# Altium footprint library SparkFun-Connectors.PCBLIB: 305 footprints (part 10 of 20)
Each footprint in its own frame and in the unit in brackets; x right, y up, seen from the top. Pads: shape width x height; smd on the part's side, far side on the other; paste and mask are expansions set on the pad; w line width, h text height; cw(c..) or ccw(c..) is an arc to the next point about the centre after c.
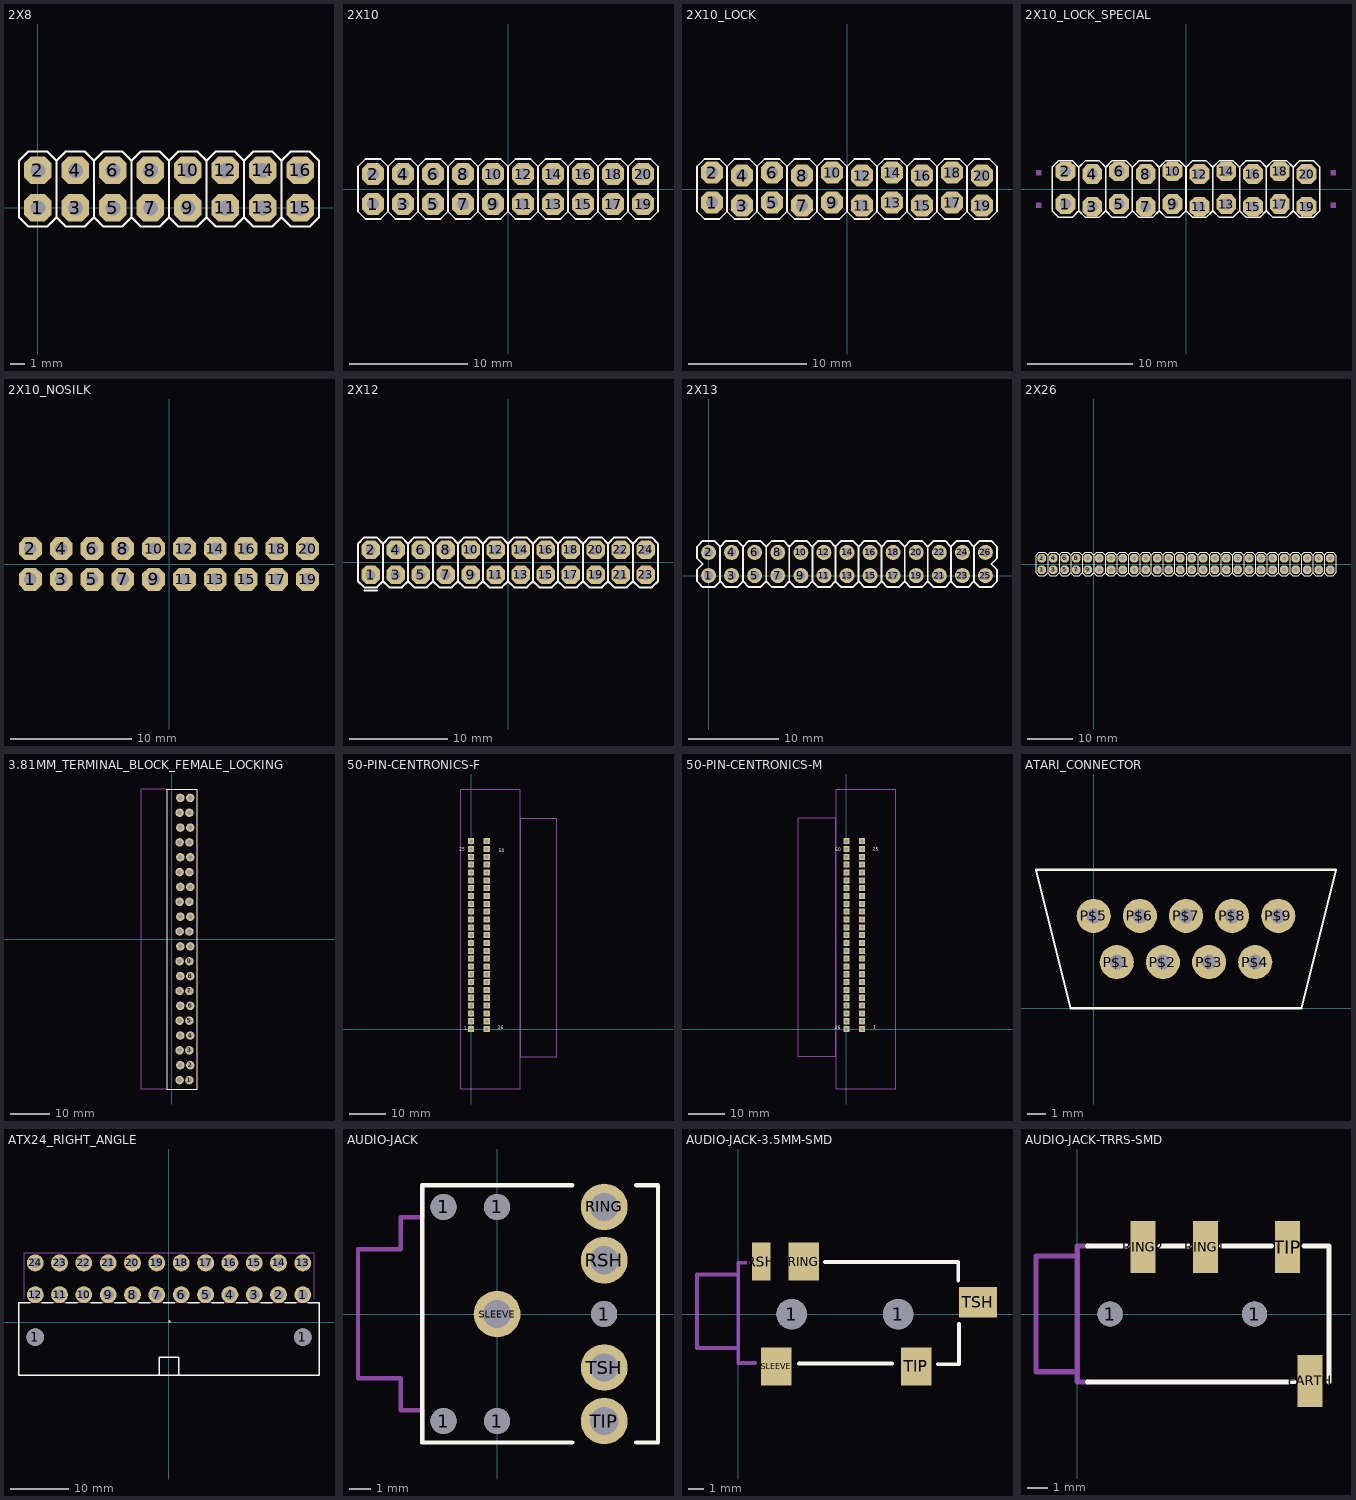
[diagram p9: the footprints below, top view; thin cyan lines are the x and y axes]

## 2X8 [mil]
pads (16):
  oct 74x74 hole 40: 1(0,0) 2(0,100) 3(100,0) 4(100,100) 5(200,0) 6(200,100) 7(300,0) 8(300,100) 9(400,0) 10(400,100) 11(500,0) 12(500,100) 13(600,0) 14(600,100) 15(700,0) 16(700,100)
Top Overlay:
  lines w6: 50,-25 25,-50 -25,-50 -50,-25 -50,125 -25,150 25,150 50,125 ; 50,-25 75,-50 125,-50 150,-25 ; 50,-25 50,125 ; 50,125 75,150 125,150 150,125 ; 150,-25 175,-50 225,-50 250,-25 ; 150,-25 150,125 ; 150,125 175,150 225,150 250,125 ; 250,-25 275,-50 325,-50 350,-25 ; 250,-25 250,125 ; 250,125 275,150 325,150 350,125 ; 350,-25 375,-50 425,-50 450,-25 ; 350,-25 350,125 ; 350,125 375,150 425,150 450,125 ; 450,-25 475,-50 525,-50 550,-25 ; 450,-25 450,125 ; 450,125 475,150 525,150 550,125 ; 550,-25 575,-50 625,-50 650,-25 ; 550,-25 550,125 ; 550,125 575,150 625,150 650,125 ; 650,-25 675,-50 725,-50 750,-25 750,125 725,150 675,150 650,125 ; 650,-25 650,125
Mechanical 16:
  rectangle: -10,-10 10,10
  rectangle: -10,90 10,110
  rectangle: 90,90 110,110
  rectangle: 90,-10 110,10
  rectangle: 190,90 210,110
  rectangle: 190,-10 210,10
  rectangle: 290,90 310,110
  rectangle: 390,90 410,110
  rectangle: 490,90 510,110
  rectangle: 290,-10 310,10
  rectangle: 390,-10 410,10
  rectangle: 490,-10 510,10
  rectangle: 590,90 610,110
  rectangle: 590,-10 610,10
  rectangle: 690,90 710,110
  rectangle: 690,-10 710,10

## 2X10 [mil]
pads (20):
  oct 74x74 hole 40: 1(-450,-50) 2(-450,50) 3(-350,-50) 4(-350,50) 5(-250,-50) 6(-250,50) 7(-150,-50) 8(-150,50) 9(-50,-50) 10(-50,50) 11(50,-50) 12(50,50) 13(150,-50) 14(150,50) 15(250,-50) 16(250,50) 17(350,-50) 18(350,50) 19(450,-50) 20(450,50)
Top Overlay:
  lines w6: -400,-75 -425,-100 -475,-100 -500,-75 -500,75 -475,100 -425,100 -400,75 ; -400,-75 -375,-100 -325,-100 -300,-75 ; -400,-75 -400,75 ; -400,75 -375,100 -325,100 -300,75 ; -300,-75 -275,-100 -225,-100 -200,-75 ; -300,-75 -300,75 ; -300,75 -275,100 -225,100 -200,75 ; -200,-75 -175,-100 -125,-100 -100,-75 ; -200,-75 -200,75 ; -200,75 -175,100 -125,100 -100,75 ; -100,-75 -75,-100 -25,-100 0,-75 ; -100,-75 -100,75 ; -100,75 -75,100 -25,100 0,75 ; 0,-75 25,-100 75,-100 100,-75 ; 0,-75 0,75 ; 0,75 25,100 75,100 100,75 ; 100,-75 125,-100 175,-100 200,-75 ; 100,-75 100,75 ; 100,75 125,100 175,100 200,75 ; 200,-75 225,-100 275,-100 300,-75 ; 200,-75 200,75 ; 200,75 225,100 275,100 300,75 ; 300,-75 325,-100 375,-100 400,-75 ; 300,-75 300,75 ; 300,75 325,100 375,100 400,75 ; 400,-75 400,75 ; 400,-75 425,-100 475,-100 500,-75 500,75 475,100 425,100 400,75
Mechanical 16:
  rectangle: -460,-60 -440,-40
  rectangle: -460,40 -440,60
  rectangle: -360,40 -340,60
  rectangle: -360,-60 -340,-40
  rectangle: -260,40 -240,60
  rectangle: -260,-60 -240,-40
  rectangle: -160,40 -140,60
  rectangle: -60,40 -40,60
  rectangle: 40,40 60,60
  rectangle: -160,-60 -140,-40
  rectangle: -60,-60 -40,-40
  rectangle: 40,-60 60,-40
  rectangle: 140,40 160,60
  rectangle: 140,-60 160,-40
  rectangle: 240,40 260,60
  rectangle: 240,-60 260,-40
  rectangle: 340,40 360,60
  rectangle: 340,-60 360,-40
  rectangle: 440,40 460,60
  rectangle: 440,-60 460,-40

## 2X10_LOCK [mil]
pads (20):
  oct 74x74 hole 40: 1(-450,-45) 2(-450,55) 3(-350,-55) 4(-350,45) 5(-250,-45) 6(-250,55) 7(-150,-55) 8(-150,45) 9(-50,-45) 10(-50,55) 11(50,-55) 12(50,45) 13(150,-45) 14(150,55) 15(250,-55) 16(250,45) 17(350,-45) 18(350,55) 19(450,-55) 20(450,45)
Top Overlay:
  lines w6: -400,-75 -425,-100 -475,-100 -500,-75 -500,75 -475,100 -425,100 -400,75 ; -400,-75 -375,-100 -325,-100 -300,-75 ; -400,-75 -400,75 ; -400,75 -375,100 -325,100 -300,75 ; -300,-75 -275,-100 -225,-100 -200,-75 ; -300,-75 -300,75 ; -300,75 -275,100 -225,100 -200,75 ; -200,-75 -175,-100 -125,-100 -100,-75 ; -200,-75 -200,75 ; -200,75 -175,100 -125,100 -100,75 ; -100,-75 -75,-100 -25,-100 0,-75 ; -100,-75 -100,75 ; -100,75 -75,100 -25,100 0,75 ; 0,-75 25,-100 75,-100 100,-75 ; 0,-75 0,75 ; 0,75 25,100 75,100 100,75 ; 100,-75 125,-100 175,-100 200,-75 ; 100,-75 100,75 ; 100,75 125,100 175,100 200,75 ; 200,-75 225,-100 275,-100 300,-75 ; 200,-75 200,75 ; 200,75 225,100 275,100 300,75 ; 300,-75 325,-100 375,-100 400,-75 ; 300,-75 300,75 ; 300,75 325,100 375,100 400,75 ; 400,-75 400,75 ; 400,-75 425,-100 475,-100 500,-75 500,75 475,100 425,100 400,75
Mechanical 16:
  rectangle: -460,-60 -440,-40
  rectangle: -460,40 -440,60
  rectangle: -360,40 -340,60
  rectangle: -360,-60 -340,-40
  rectangle: -260,40 -240,60
  rectangle: -260,-60 -240,-40
  rectangle: -160,40 -140,60
  rectangle: -60,40 -40,60
  rectangle: 40,40 60,60
  rectangle: -160,-60 -140,-40
  rectangle: -60,-60 -40,-40
  rectangle: 40,-60 60,-40
  rectangle: 140,40 160,60
  rectangle: 140,-60 160,-40
  rectangle: 240,40 260,60
  rectangle: 240,-60 260,-40
  rectangle: 340,40 360,60
  rectangle: 340,-60 360,-40
  rectangle: 440,40 460,60
  rectangle: 440,-60 460,-40

## 2X10_LOCK_SPECIAL [mil]
pads (20):
  oct 74x74 hole 40: 1(-450,-56) 2(-450,66) 3(-350,-66) 4(-350,56) 5(-250,-56) 6(-250,66) 7(-150,-66) 8(-150,56) 9(-50,-56) 10(-50,66) 11(50,-66) 12(50,56) 13(150,-56) 14(150,66) 15(250,-66) 16(250,56) 17(350,-56) 18(350,66) 19(450,-66) 20(450,56)
Top Overlay:
  lines w6: -400,-81 -425,-106 -475,-106 -500,-81 -500,81 -475,106 -425,106 -400,81 ; -400,-81 -375,-106 -325,-106 -300,-81 ; -400,-81 -400,81 ; -400,81 -375,106 -325,106 -300,81 ; -300,-81 -275,-106 -225,-106 -200,-81 ; -300,-81 -300,81 ; -300,81 -275,106 -225,106 -200,81 ; -200,-81 -175,-106 -125,-106 -100,-81 ; -200,-81 -200,81 ; -200,81 -175,106 -125,106 -100,81 ; -100,-81 -75,-106 -25,-106 0,-81 ; -100,-81 -100,81 ; -100,81 -75,106 -25,106 0,81 ; 0,-81 25,-106 75,-106 100,-81 ; 0,-81 0,81 ; 0,81 25,106 75,106 100,81 ; 100,-81 125,-106 175,-106 200,-81 ; 100,-81 100,81 ; 100,81 125,106 175,106 200,81 ; 200,-81 225,-106 275,-106 300,-81 ; 200,-81 200,81 ; 200,81 225,106 275,106 300,81 ; 300,-81 325,-106 375,-106 400,-81 ; 300,-81 300,81 ; 300,81 325,106 375,106 400,81 ; 400,-81 400,81 ; 400,-81 425,-106 475,-106 500,-81 500,81 475,106 425,106 400,81
Mechanical 16:
  rectangle: -460,-71 -440,-51
  rectangle: -460,51 -440,71
  rectangle: -360,51 -340,71
  rectangle: -360,-71 -340,-51
  rectangle: -260,51 -240,71
  rectangle: -260,-71 -240,-51
  rectangle: -160,51 -140,71
  rectangle: -60,51 -40,71
  rectangle: 40,51 60,71
  rectangle: -160,-71 -140,-51
  rectangle: -60,-71 -40,-51
  rectangle: 40,-71 60,-51
  rectangle: 140,51 160,71
  rectangle: 140,-71 160,-51
  rectangle: 240,51 260,71
  rectangle: 240,-71 260,-51
  rectangle: 340,51 360,71
  rectangle: 340,-71 360,-51
  rectangle: 440,51 460,71
  rectangle: 440,-71 460,-51
  rectangle: -560,51 -540,71
  rectangle: -560,-71 -540,-51
  rectangle: 540,51 560,71
  rectangle: 540,-71 560,-51

## 2X10_NOSILK [mil]
pads (20):
  oct 74x74 hole 40: 1(-450,-50) 2(-450,50) 3(-350,-50) 4(-350,50) 5(-250,-50) 6(-250,50) 7(-150,-50) 8(-150,50) 9(-50,-50) 10(-50,50) 11(50,-50) 12(50,50) 13(150,-50) 14(150,50) 15(250,-50) 16(250,50) 17(350,-50) 18(350,50) 19(450,-50) 20(450,50)
Mechanical 16:
  rectangle: -460,-60 -440,-40
  rectangle: -460,40 -440,60
  rectangle: -360,40 -340,60
  rectangle: -360,-60 -340,-40
  rectangle: -260,40 -240,60
  rectangle: -260,-60 -240,-40
  rectangle: -160,40 -140,60
  rectangle: -60,40 -40,60
  rectangle: 40,40 60,60
  rectangle: -160,-60 -140,-40
  rectangle: -60,-60 -40,-40
  rectangle: 40,-60 60,-40
  rectangle: 140,40 160,60
  rectangle: 140,-60 160,-40
  rectangle: 240,40 260,60
  rectangle: 240,-60 260,-40
  rectangle: 340,40 360,60
  rectangle: 340,-60 360,-40
  rectangle: 440,40 460,60
  rectangle: 440,-60 460,-40

## 2X12 [mil]
pads (24):
  oct 74x74 hole 40: 1(-550,-50) 2(-550,50) 3(-450,-50) 4(-450,50) 5(-350,-50) 6(-350,50) 7(-250,-50) 8(-250,50) 9(-150,-50) 10(-150,50) 11(-50,-50) 12(-50,50) 13(50,-50) 14(50,50) 15(150,-50) 16(150,50) 17(250,-50) 18(250,50) 19(350,-50) 20(350,50) 21(450,-50) 22(450,50) 23(550,-50) 24(550,50)
Top Overlay:
  lines w8: -575,-113.19 -525,-113.19 ; -500,-75 -525,-100 -575,-100 -600,-75 -600,75 -575,100 -525,100 -500,75 ; -500,-75 -475,-100 -425,-100 -400,-75 ; -500,-75 -500,75 ; -500,75 -475,100 -425,100 -400,75 ; -400,-75 -375,-100 -325,-100 -300,-75 ; -400,-75 -400,75 ; -400,75 -375,100 -325,100 -300,75 ; -300,-75 -300,75 ; -300,-75 -275,-100 -225,-100 -200,-75 ; -300,-75 -300,75 ; -300,75 -275,100 -225,100 -200,75 ; -200,-75 -175,-100 -125,-100 -100,-75 ; -200,-75 -200,75 ; -200,75 -175,100 -125,100 -100,75 ; -100,-75 -75,-100 -25,-100 0,-75 ; -100,-75 -100,75 ; -100,75 -75,100 -25,100 0,75 ; 0,-75 0,75 ; 0,-75 25,-100 75,-100 100,-75 ; 0,-75 0,75 ; 0,75 25,100 75,100 100,75 ; 100,-75 125,-100 175,-100 200,-75 ; 100,-75 100,75 ; 100,75 125,100 175,100 200,75 ; 200,-75 225,-100 275,-100 300,-75 ; 200,-75 200,75 ; 200,75 225,100 275,100 300,75 ; 300,-75 300,75 ; 300,-75 325,-100 375,-100 400,-75 ; 300,-75 300,75 ; 300,75 325,100 375,100 400,75 ; 400,-75 425,-100 475,-100 500,-75 ; 400,-75 400,75 ; 400,75 425,100 475,100 500,75 ; 500,-75 525,-100 575,-100 600,-75 600,75 575,100 525,100 500,75 ; 500,-75 500,75
Mechanical 16:
  rectangle: -560,-60 -540,-40
  rectangle: -560,40 -540,60
  rectangle: -460,40 -440,60
  rectangle: -460,-60 -440,-40
  rectangle: -360,40 -340,60
  rectangle: -360,-60 -340,-40
  rectangle: -260,-60 -240,-40
  rectangle: -260,40 -240,60
  rectangle: -160,40 -140,60
  rectangle: -160,-60 -140,-40
  rectangle: -60,40 -40,60
  rectangle: -60,-60 -40,-40
  rectangle: 40,-60 60,-40
  rectangle: 40,40 60,60
  rectangle: 140,40 160,60
  rectangle: 140,-60 160,-40
  rectangle: 240,40 260,60
  rectangle: 240,-60 260,-40
  rectangle: 340,-60 360,-40
  rectangle: 340,40 360,60
  rectangle: 440,40 460,60
  rectangle: 440,-60 460,-40
  rectangle: 540,40 560,60
  rectangle: 540,-60 560,-40

## 2X13 [mil]
pads (26):
  round 65 hole 40: 1(0,0) 2(0,100) 3(100,0) 4(100,100) 5(200,0) 6(200,100) 7(300,0) 8(300,100) 9(400,0) 10(400,100) 11(500,0) 12(500,100) 13(600,0) 14(600,100) 15(700,0) 16(700,100) 17(800,0) 18(800,100) 19(900,0) 20(900,100) 21(1000,0) 22(1000,100) 23(1100,0) 24(1100,100) 25(1200,0) 26(1200,100)
Top Overlay:
  lines w8: 50,-25 25,-50 -25,-50 -50,-25 -50,25 -25,50 -50,75 -50,125 -25,150 25,150 50,125 ; 50,-25 75,-50 125,-50 150,-25 ; 50,-25 50,125 ; 50,125 75,150 125,150 150,125 ; 150,-25 175,-50 225,-50 250,-25 ; 150,-25 150,125 ; 150,125 175,150 225,150 250,125 ; 250,-25 275,-50 325,-50 350,-25 ; 250,-25 250,125 ; 250,125 275,150 325,150 350,125 ; 350,-25 375,-50 425,-50 450,-25 ; 350,-25 350,125 ; 350,125 375,150 425,150 450,125 ; 450,-25 475,-50 525,-50 550,-25 ; 450,-25 450,125 ; 450,125 475,150 525,150 550,125 ; 550,-25 575,-50 625,-50 650,-25 ; 550,-25 550,125 ; 550,125 575,150 625,150 650,125 ; 650,-25 675,-50 725,-50 750,-25 ; 650,-25 650,125 ; 650,125 675,150 725,150 750,125 ; 750,-25 775,-50 825,-50 850,-25 ; 750,-25 750,125 ; 750,125 775,150 825,150 850,125 ; 850,-25 875,-50 925,-50 950,-25 ; 850,-25 850,125 ; 850,125 875,150 925,150 950,125 ; 950,-25 975,-50 1025,-50 1050,-25 ; 950,-25 950,125 ; 950,125 975,150 1025,150 1050,125 ; 1050,-25 1075,-50 1125,-50 1150,-25 ; 1050,-25 1050,125 ; 1050,125 1075,150 1125,150 1150,125 ; 1150,-25 1175,-50 1225,-50 1250,-25 1250,25 1225,50 1250,75 1250,125 1225,150 1175,150 1150,125 ; 1150,-25 1150,125
Mechanical 16:
  rectangle: 590,-10 610,10
  rectangle: 490,-10 510,10
  rectangle: 390,-10 410,10
  rectangle: 290,-10 310,10
  rectangle: 190,-10 210,10
  rectangle: 90,-10 110,10
  rectangle: -10,-10 10,10
  rectangle: 1190,-10 1210,10
  rectangle: 1090,-10 1110,10
  rectangle: 990,-10 1010,10
  rectangle: 890,-10 910,10
  rectangle: 790,-10 810,10
  rectangle: 690,-10 710,10
  region: 610,110 590,110 590,90 610,90
  region: 710,110 690,110 690,90 710,90
  region: 810,110 790,110 790,90 810,90
  region: 910,110 890,110 890,90 910,90
  region: 1010,110 990,110 990,90 1010,90
  region: 1110,110 1090,110 1090,90 1110,90
  region: 1210,110 1190,110 1190,90 1210,90
  region: 10,110 -10,110 -10,90 10,90
  region: 110,110 90,110 90,90 110,90
  region: 210,110 190,110 190,90 210,90
  region: 310,110 290,110 290,90 310,90
  region: 410,110 390,110 390,90 410,90
  region: 510,110 490,110 490,90 510,90

## 2X26 [mil]
pads (52):
  oct 74x74 hole 40: 1(-450,-50) 2(-450,50) 3(-350,-50) 4(-350,50) 5(-250,-50) 6(-250,50) 7(-150,-50) 8(-150,50) 9(-50,-50) 10(-50,50) 11(50,-50) 12(50,50) 13(150,-50) 14(150,50) 15(250,-50) 16(250,50) 17(350,-50) 18(350,50) 19(450,-50) 20(450,50) 21(550,-50) 22(550,50) 23(650,-50) 24(650,50) 25(750,-50) 26(750,50) 27(850,-50) 28(850,50) 29(950,-50) 30(950,50) 31(1050,-50) 32(1050,50) 33(1150,-50) 34(1150,50) 35(1250,-50) 36(1250,50) 37(1350,-50) 38(1350,50) 39(1450,-50) 40(1450,50) 41(1550,-50) 42(1550,50) 43(1650,-50) 44(1650,50) 45(1750,-50) 46(1750,50) 47(1850,-50) 48(1850,50) 49(1950,-50) 50(1950,50) 51(2050,-50) 52(2050,50)
Top Overlay:
  drawing of 183 lines, arcs and shapes, not listed
Mechanical 16:
  rectangle: -460,-60 -440,-40
  rectangle: -460,40 -440,60
  rectangle: -360,40 -340,60
  rectangle: -360,-60 -340,-40
  rectangle: -260,40 -240,60
  rectangle: -260,-60 -240,-40
  rectangle: -160,40 -140,60
  rectangle: -60,40 -40,60
  rectangle: 40,40 60,60
  rectangle: -160,-60 -140,-40
  rectangle: -60,-60 -40,-40
  rectangle: 40,-60 60,-40
  rectangle: 140,40 160,60
  rectangle: 140,-60 160,-40
  rectangle: 240,40 260,60
  rectangle: 240,-60 260,-40
  rectangle: 340,40 360,60
  rectangle: 340,-60 360,-40
  rectangle: 440,40 460,60
  rectangle: 440,-60 460,-40
  rectangle: 540,-60 560,-40
  rectangle: 540,40 560,60
  rectangle: 640,40 660,60
  rectangle: 640,-60 660,-40
  rectangle: 740,40 760,60
  rectangle: 740,-60 760,-40
  rectangle: 840,40 860,60
  rectangle: 940,40 960,60
  rectangle: 1040,40 1060,60
  rectangle: 840,-60 860,-40
  rectangle: 940,-60 960,-40
  rectangle: 1040,-60 1060,-40
  rectangle: 1140,40 1160,60
  rectangle: 1140,-60 1160,-40
  rectangle: 1240,40 1260,60
  rectangle: 1240,-60 1260,-40
  rectangle: 1340,40 1360,60
  rectangle: 1340,-60 1360,-40
  rectangle: 1440,40 1460,60
  rectangle: 1440,-60 1460,-40
  rectangle: 1540,40 1560,60
  rectangle: 1640,40 1660,60
  rectangle: 1540,-60 1560,-40
  rectangle: 1640,-60 1660,-40
  rectangle: 1740,40 1760,60
  rectangle: 1740,-60 1760,-40
  rectangle: 1840,40 1860,60
  rectangle: 1840,-60 1860,-40
  rectangle: 1940,40 1960,60
  rectangle: 1940,-60 1960,-40
  rectangle: 2040,40 2060,60
  rectangle: 2040,-60 2060,-40

## 3.81MM_TERMINAL_BLOCK_FEMALE_LOCKING [mil]
pads (40):
  round 86 hole 48: 1(178,-1424.95) 2(186,-1274.95) 3(178,-1124.95) 4(186,-974.95) 5(178,-824.95) 6(186,-674.95) 7(178,-524.95) 8(186,-374.95) 9(178,-224.95) 10(186,-74.95) 11(178,76) 12(186,226) 13(178,376) 14(186,526) 15(178,676) 16(186,826) 17(178,976) 18(186,1126) 19(178,1276) 20(186,1426) @1(78,-1424.95) @2(86,-1274.95) @3(78,-1124.95) @4(86,-974.95) @5(78,-824.95) @6(86,-674.95) @7(78,-524.95) @8(86,-374.95) @9(78,-224.95) @10(86,-74.95) @11(78,76) @12(86,226) @13(78,376) @14(86,526) @15(78,676) @16(86,826) @17(78,976) @18(86,1126) @19(78,1276) @20(86,1426)
Top Overlay:
  lines w8: -50,-1515.55 -50,1516 257,1516 257,-1515.55 -50,-1515.55
Mechanical 16:
  rectangle: 164,1267 201,1284
  rectangle: 164,1417 201,1434
  rectangle: 64,1267 101,1284
  rectangle: 64,1417 101,1434
  rectangle: 164,967 201,984
  rectangle: 164,1117 201,1134
  rectangle: 64,967 101,984
  rectangle: 64,1117 101,1134
  rectangle: 164,667 201,684
  rectangle: 164,817 201,834
  rectangle: 64,667 101,684
  rectangle: 64,817 101,834
  rectangle: 164,367 201,384
  rectangle: 164,517 201,534
  rectangle: 64,367 101,384
  rectangle: 64,517 101,534
  rectangle: 164,67 201,84
  rectangle: 164,217 201,234
  rectangle: 64,67 101,84
  rectangle: 64,217 101,234
  rectangle: 164,-233.45 201,-216.45
  rectangle: 164,-83.45 201,-66.45
  rectangle: 64,-233.45 101,-216.45
  rectangle: 64,-83.45 101,-66.45
  rectangle: 164,-533.45 201,-516.45
  rectangle: 164,-383.45 201,-366.45
  rectangle: 64,-533.45 101,-516.45
  rectangle: 64,-383.45 101,-366.45
  rectangle: 164,-833.45 201,-816.45
  rectangle: 164,-683.45 201,-666.45
  rectangle: 64,-833.45 101,-816.45
  rectangle: 64,-683.45 101,-666.45
  rectangle: 164,-1133.45 201,-1116.45
  rectangle: 164,-983.45 201,-966.45
  rectangle: 64,-1133.45 101,-1116.45
  rectangle: 64,-983.45 101,-966.45
  rectangle: 164,-1433.45 201,-1416.45
  rectangle: 164,-1283.45 201,-1266.45
  rectangle: 64,-1433.45 101,-1416.45
  rectangle: 64,-1283.45 101,-1266.45
  lines w8: -50,-1515.55 -314,-1515.55 -314,1516 -50,1516

## 50-PIN-CENTRONICS-F [mil]
pads (50):
  rect 66x66 hole 36: P$1(0,0) P$2(0,85) P$3(0,170) P$4(0,255) P$5(0,340) P$6(0,425) P$7(0,510) P$8(0,595) P$9(0,680) P$10(0,765) P$11(0,850) P$12(0,935) P$13(0,1020) P$14(0,1105) P$15(0,1190) P$16(0,1275) P$17(0,1360) P$18(0,1445) P$19(0,1530) P$20(0,1615) P$21(0,1700) P$22(0,1785) P$23(0,1870) P$24(0,1955) P$25(0,2040) P$26(170,0) P$27(170,85) P$28(170,170) P$29(170,255) P$30(170,340) P$31(170,425) P$32(170,510) P$33(170,595) P$34(170,680) P$35(170,765) P$36(170,850) P$37(170,935) P$38(170,1020) P$39(170,1105) P$40(170,1190) P$41(170,1275) P$42(170,1360) P$43(170,1445) P$44(170,1530) P$45(170,1615) P$46(170,1700) P$47(170,1785) P$48(170,1870) P$49(170,1955) P$50(170,2040)
Top Overlay:
  text "1" at -75,-25 h62
  text "25" at -130,1920 h62
  text "26" at 290,-20 h62
  text "50" at 300,1920 h34
Mechanical 16:
  lines w5: -111.34,-650 -111.34,2606 535,2606 535,-650 -111.34,-650 ; 537,-300 931,-300 931,2287 537,2287 537,-300

## 50-PIN-CENTRONICS-M [mil]
pads (50):
  rect 66x66 hole 36: P$1(170,0) P$2(170,85) P$3(170,170) P$4(170,255) P$5(170,340) P$6(170,425) P$7(170,510) P$8(170,595) P$9(170,680) P$10(170,765) P$11(170,850) P$12(170,935) P$13(170,1020) P$14(170,1105) P$15(170,1190) P$16(170,1275) P$17(170,1360) P$18(170,1445) P$19(170,1530) P$20(170,1615) P$21(170,1700) P$22(170,1785) P$23(170,1870) P$24(170,1955) P$25(170,2040) P$26(0,0) P$27(0,85) P$28(0,170) P$29(0,255) P$30(0,340) P$31(0,425) P$32(0,510) P$33(0,595) P$34(0,680) P$35(0,765) P$36(0,850) P$37(0,935) P$38(0,1020) P$39(0,1105) P$40(0,1190) P$41(0,1275) P$42(0,1360) P$43(0,1445) P$44(0,1530) P$45(0,1615) P$46(0,1700) P$47(0,1785) P$48(0,1870) P$49(0,1955) P$50(0,2040)
Top Overlay:
  text "1" at 293,-15 h62
  text "25" at 288,1920 h62
  text "26" at -127.87,-20 h62
  text "50" at -117.87,1930 h34
Mechanical 16:
  lines w5: -519.68,-300 -113.39,-300 -113.39,2287 -519.68,2287 -519.68,-300 ; -111.34,-650 -111.34,2606 535,2606 535,-650 -111.34,-650

## ATARI_CONNECTOR [mil]
pads (9):
  round 74 hole 32: P$1(50,100) P$2(150,100) P$3(250,100) P$4(350,100) P$5(0,200) P$6(100,200) P$7(200,200) P$8(300,200) P$9(400,200)
Top Overlay:
  lines w5: -125,300 525,300 450,0 -50,0 -125,300

## ATX24_RIGHT_ANGLE [mil]
pads (26):
  round 119 hole 119: 1(-909.45,-100) 1(910,-100)
  round 115 hole 71: 1(910,188) 2(745,188) 3(579,188) 4(414,188) 5(249,188) 6(83,188) 7(-82.68,188) 8(-248.03,188) 9(-413.39,188) 10(-578.74,188) 11(-744.09,188) 12(-909.45,188) 13(910,404) 14(745,404) 15(579,404) 16(414,404) 17(249,404) 18(83,404) 19(-82.68,404) 20(-248.03,404) 21(-413.39,404) 22(-578.74,404) 23(-744.09,404) 24(-909.45,404)
Top Overlay:
  region: 0,0 10,0 10,10 0,10
  lines w10: -944.88,134 -1019.68,134 -1019.68,-359.84 1020,-359.84 1020,134 945,134 ; -866.14,134 -787.4,134 ; -700.79,134 -622.05,134 ; -531.5,134 -452.76,134 ; -370.08,134 -291.34,134 ; -204.72,134 -125.98,134 ; -66.93,-354.33 -66.93,-236.22 67,-236.22 67,-354.33 ; -39.37,134 40,134 ; 126,134 205,134 ; 292,134 371,134 ; 457,134 536,134 ; 623,134 701,134 ; 788,134 867,134
Mechanical 16:
  lines w5: -984.25,158 -984.25,473 985,473 985,158
  lines w8: -1019.68,134 1020,134

## AUDIO-JACK [mil]
pads (10):
  round 48 hole 48: 1(-98.43,-196.85) 1(-98.43,197) 1(0,-196.85) 1(0,197) 1(197,0)
  round 86 hole 52: RING(197,197) RSH(197,99) SLEEVE(0,0) TIP(197,-196.85) TSH(197,-98.43)
Top Overlay:
  lines w8: 138,-236.22 -137.8,-236.22 -137.8,237 138,237 ; 256,-236.22 296,-236.22 296,237 256,237
Mechanical 16:
  lines w8: -137.8,-236.22 -137.8,-177.17 -177.17,-177.17 -177.17,-118.11 -255.91,-118.11 -255.91,119 -177.17,119 -177.17,178 -137.8,178 -137.8,237

## AUDIO-JACK-3.5MM-SMD [mil]
pads (7):
  round 79 hole 79: 1(138,0) 1(414,0)
  rect 79x99 smd: RING(170,136) SLEEVE(99,-135.83) TIP(461,-135.83)
  rect 48x99 smd: RSH(60,136)
  rect 99x79 smd: TSH(621,30)
Top Overlay:
  lines w10: 157,-128 399,-128 ; 224,135 570,135 570,87 ; 518,-130 572,-130 572,-25
Mechanical 16:
  lines w10: -6,102 -107,102 -107,-88 0,-88 ; 25,133 0,133 0,-88 ; 43,-127 0,-127 0,-88

## AUDIO-JACK-TRRS-SMD [mil]
pads (6):
  round 48 hole 48: 1(63,0) 1(339,0)
  rect 48x99 smd: EARTH(445,-127.95) RING1(245,128) RING2(126,128) TIP(402,128)
Top Overlay:
  lines w10: 20,-129.92 414,-129.92 ; 20,130 95,130 ; 158,130 213,130 ; 276,130 371,130 ; 434,130 481,130 481,-129.92
Mechanical 16:
  lines w10: 20,-129.92 0,-129.92 0,-110.24 ; 20,130 0,130 0,111 ; 0,-110.24 0,111 ; 0,-110.24 -78.74,-110.24 -78.74,111 0,111